# Altium schematic symbol library W25Q128JVFIQ.SchLib: 2 symbols
Pins are listed as number, name and electrical type; pins without a type are passive.

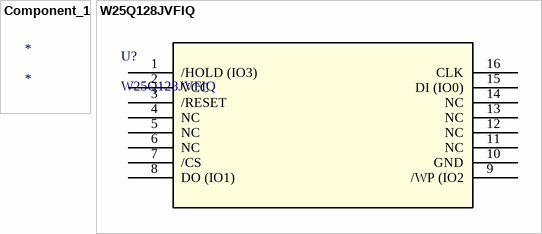
[diagram p0: symbols Component_1 to W25Q128JVFIQ]

## Component_1
designator *

## W25Q128JVFIQ
designator U?
No Description Available; Mfr_Name: Winbond; Copyright: Copyright (C) 2022 Ultra Librarian. All rights reserved.; Manufacturer_Part_Number: W25Q128JVFIQ; Digi-Key_Part_Number_1: W25Q128JVFIQ-ND; RefDes: RefDes; Type: DEV
footprint SOIC_28JVFIQ_WIN
pins: 1 /HOLD (IO3), 2 VCC (power), 3 /RESET, 4 NC, 5 NC, 6 NC, 7 /CS, 8 DO (IO1), 9 /WP (IO2, 10 GND, 11 NC, 12 NC, 13 NC, 14 NC, 15 DI (IO0), 16 CLK